# Altium schematic symbol library SMARC.SchLib: 1 symbol
Pins are listed as number, name and electrical type; pins without a type are passive.

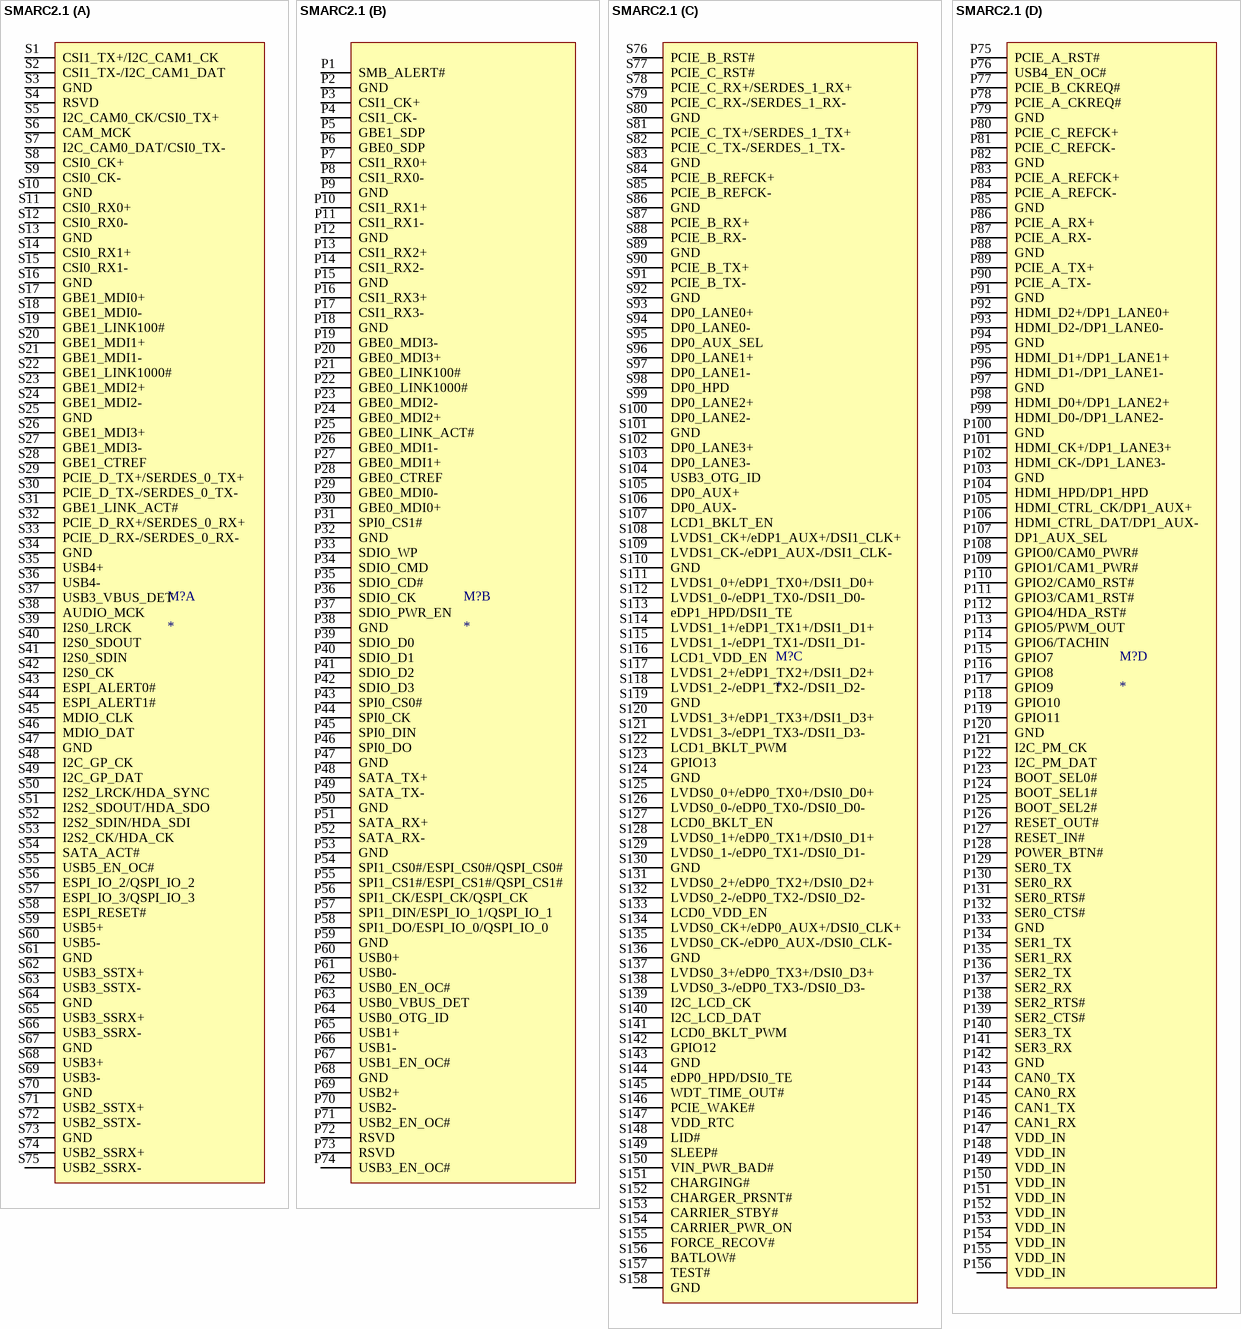
[diagram p0: symbol SMARC2.1]

## SMARC2.1
designator M?
footprint SMARC2.1
part A pins: S1 CSI1_TX+/I2C_CAM1_CK, S2 CSI1_TX-/I2C_CAM1_DAT, S3 GND, S4 RSVD, S5 I2C_CAM0_CK/CSI0_TX+, S6 CAM_MCK, S7 I2C_CAM0_DAT/CSI0_TX-, S8 CSI0_CK+, S9 CSI0_CK-, S10 GND, S11 CSI0_RX0+, S12 CSI0_RX0-, S13 GND, S14 CSI0_RX1+, S15 CSI0_RX1-, S16 GND, S17 GBE1_MDI0+, S18 GBE1_MDI0-, S19 GBE1_LINK100#, S20 GBE1_MDI1+, S21 GBE1_MDI1-, S22 GBE1_LINK1000#, S23 GBE1_MDI2+, S24 GBE1_MDI2-, S25 GND, S26 GBE1_MDI3+, S27 GBE1_MDI3-, S28 GBE1_CTREF, S29 PCIE_D_TX+/SERDES_0_TX+, S30 PCIE_D_TX-/SERDES_0_TX-, S31 GBE1_LINK_ACT#, S32 PCIE_D_RX+/SERDES_0_RX+, S33 PCIE_D_RX-/SERDES_0_RX-, S34 GND, S35 USB4+, S36 USB4-, S37 USB3_VBUS_DET, S38 AUDIO_MCK, S39 I2S0_LRCK, S40 I2S0_SDOUT, S41 I2S0_SDIN, S42 I2S0_CK, S43 ESPI_ALERT0#, S44 ESPI_ALERT1#, S45 MDIO_CLK, S46 MDIO_DAT, S47 GND, S48 I2C_GP_CK, S49 I2C_GP_DAT, S50 I2S2_LRCK/HDA_SYNC, S51 I2S2_SDOUT/HDA_SDO, S52 I2S2_SDIN/HDA_SDI, S53 I2S2_CK/HDA_CK, S54 SATA_ACT#, S55 USB5_EN_OC#, S56 ESPI_IO_2/QSPI_IO_2, S57 ESPI_IO_3/QSPI_IO_3, S58 ESPI_RESET#, S59 USB5+, S60 USB5-, S61 GND, S62 USB3_SSTX+, S63 USB3_SSTX-, S64 GND, S65 USB3_SSRX+, S66 USB3_SSRX-, S67 GND, S68 USB3+, S69 USB3-, S70 GND, S71 USB2_SSTX+, S72 USB2_SSTX-, S73 GND, S74 USB2_SSRX+, S75 USB2_SSRX-
part B pins: P1 SMB_ALERT#, P2 GND, P3 CSI1_CK+, P4 CSI1_CK-, P5 GBE1_SDP, P6 GBE0_SDP, P7 CSI1_RX0+, P8 CSI1_RX0-, P9 GND, P10 CSI1_RX1+, P11 CSI1_RX1-, P12 GND, P13 CSI1_RX2+, P14 CSI1_RX2-, P15 GND, P16 CSI1_RX3+, P17 CSI1_RX3-, P18 GND, P19 GBE0_MDI3-, P20 GBE0_MDI3+, P21 GBE0_LINK100#, P22 GBE0_LINK1000#, P23 GBE0_MDI2-, P24 GBE0_MDI2+, P25 GBE0_LINK_ACT#, P26 GBE0_MDI1-, P27 GBE0_MDI1+, P28 GBE0_CTREF, P29 GBE0_MDI0-, P30 GBE0_MDI0+, P31 SPI0_CS1#, P32 GND, P33 SDIO_WP, P34 SDIO_CMD, P35 SDIO_CD#, P36 SDIO_CK, P37 SDIO_PWR_EN, P38 GND, P39 SDIO_D0, P40 SDIO_D1, P41 SDIO_D2, P42 SDIO_D3, P43 SPI0_CS0#, P44 SPI0_CK, P45 SPI0_DIN, P46 SPI0_DO, P47 GND, P48 SATA_TX+, P49 SATA_TX-, P50 GND, P51 SATA_RX+, P52 SATA_RX-, P53 GND, P54 SPI1_CS0#/ESPI_CS0#/QSPI_CS0#, P55 SPI1_CS1#/ESPI_CS1#/QSPI_CS1#, P56 SPI1_CK/ESPI_CK/QSPI_CK, P57 SPI1_DIN/ESPI_IO_1/QSPI_IO_1, P58 SPI1_DO/ESPI_IO_0/QSPI_IO_0, P59 GND, P60 USB0+, P61 USB0-, P62 USB0_EN_OC#, P63 USB0_VBUS_DET, P64 USB0_OTG_ID, P65 USB1+, P66 USB1-, P67 USB1_EN_OC#, P68 GND, P69 USB2+, P70 USB2-, P71 USB2_EN_OC#, P72 RSVD, P73 RSVD, P74 USB3_EN_OC#
part C pins: S76 PCIE_B_RST#, S77 PCIE_C_RST#, S78 PCIE_C_RX+/SERDES_1_RX+, S79 PCIE_C_RX-/SERDES_1_RX-, S80 GND, S81 PCIE_C_TX+/SERDES_1_TX+, S82 PCIE_C_TX-/SERDES_1_TX-, S83 GND, S84 PCIE_B_REFCK+, S85 PCIE_B_REFCK-, S86 GND, S87 PCIE_B_RX+, S88 PCIE_B_RX-, S89 GND, S90 PCIE_B_TX+, S91 PCIE_B_TX-, S92 GND, S93 DP0_LANE0+, S94 DP0_LANE0-, S95 DP0_AUX_SEL, S96 DP0_LANE1+, S97 DP0_LANE1-, S98 DP0_HPD, S99 DP0_LANE2+, S100 DP0_LANE2-, S101 GND, S102 DP0_LANE3+, S103 DP0_LANE3-, S104 USB3_OTG_ID, S105 DP0_AUX+, S106 DP0_AUX-, S107 LCD1_BKLT_EN, S108 LVDS1_CK+/eDP1_AUX+/DSI1_CLK+, S109 LVDS1_CK-/eDP1_AUX-/DSI1_CLK-, S110 GND, S111 LVDS1_0+/eDP1_TX0+/DSI1_D0+, S112 LVDS1_0-/eDP1_TX0-/DSI1_D0-, S113 eDP1_HPD/DSI1_TE, S114 LVDS1_1+/eDP1_TX1+/DSI1_D1+, S115 LVDS1_1-/eDP1_TX1-/DSI1_D1-, S116 LCD1_VDD_EN, S117 LVDS1_2+/eDP1_TX2+/DSI1_D2+, S118 LVDS1_2-/eDP1_TX2-/DSI1_D2-, S119 GND, S120 LVDS1_3+/eDP1_TX3+/DSI1_D3+, S121 LVDS1_3-/eDP1_TX3-/DSI1_D3-, S122 LCD1_BKLT_PWM, S123 GPIO13, S124 GND, S125 LVDS0_0+/eDP0_TX0+/DSI0_D0+, S126 LVDS0_0-/eDP0_TX0-/DSI0_D0-, S127 LCD0_BKLT_EN, S128 LVDS0_1+/eDP0_TX1+/DSI0_D1+, S129 LVDS0_1-/eDP0_TX1-/DSI0_D1-, S130 GND, S131 LVDS0_2+/eDP0_TX2+/DSI0_D2+, S132 LVDS0_2-/eDP0_TX2-/DSI0_D2-, S133 LCD0_VDD_EN, S134 LVDS0_CK+/eDP0_AUX+/DSI0_CLK+, S135 LVDS0_CK-/eDP0_AUX-/DSI0_CLK-, S136 GND, S137 LVDS0_3+/eDP0_TX3+/DSI0_D3+, S138 LVDS0_3-/eDP0_TX3-/DSI0_D3-, S139 I2C_LCD_CK, S140 I2C_LCD_DAT, S141 LCD0_BKLT_PWM, S142 GPIO12, S143 GND, S144 eDP0_HPD/DSI0_TE, S145 WDT_TIME_OUT#, S146 PCIE_WAKE#, S147 VDD_RTC, S148 LID#, S149 SLEEP#, S150 VIN_PWR_BAD#, S151 CHARGING#, S152 CHARGER_PRSNT#, S153 CARRIER_STBY#, S154 CARRIER_PWR_ON, S155 FORCE_RECOV#, S156 BATLOW#, S157 TEST#, S158 GND
part D pins: P75 PCIE_A_RST#, P76 USB4_EN_OC#, P77 PCIE_B_CKREQ#, P78 PCIE_A_CKREQ#, P79 GND, P80 PCIE_C_REFCK+, P81 PCIE_C_REFCK-, P82 GND, P83 PCIE_A_REFCK+, P84 PCIE_A_REFCK-, P85 GND, P86 PCIE_A_RX+, P87 PCIE_A_RX-, P88 GND, P89 PCIE_A_TX+, P90 PCIE_A_TX-, P91 GND, P92 HDMI_D2+/DP1_LANE0+, P93 HDMI_D2-/DP1_LANE0-, P94 GND, P95 HDMI_D1+/DP1_LANE1+, P96 HDMI_D1-/DP1_LANE1-, P97 GND, P98 HDMI_D0+/DP1_LANE2+, P99 HDMI_D0-/DP1_LANE2-, P100 GND, P101 HDMI_CK+/DP1_LANE3+, P102 HDMI_CK-/DP1_LANE3-, P103 GND, P104 HDMI_HPD/DP1_HPD, P105 HDMI_CTRL_CK/DP1_AUX+, P106 HDMI_CTRL_DAT/DP1_AUX-, P107 DP1_AUX_SEL, P108 GPIO0/CAM0_PWR#, P109 GPIO1/CAM1_PWR#, P110 GPIO2/CAM0_RST#, P111 GPIO3/CAM1_RST#, P112 GPIO4/HDA_RST#, P113 GPIO5/PWM_OUT, P114 GPIO6/TACHIN, P115 GPIO7, P116 GPIO8, P117 GPIO9, P118 GPIO10, P119 GPIO11, P120 GND, P121 I2C_PM_CK, P122 I2C_PM_DAT, P123 BOOT_SEL0#, P124 BOOT_SEL1#, P125 BOOT_SEL2#, P126 RESET_OUT#, P127 RESET_IN#, P128 POWER_BTN#, P129 SER0_TX, P130 SER0_RX, P131 SER0_RTS#, P132 SER0_CTS#, P133 GND, P134 SER1_TX, P135 SER1_RX, P136 SER2_TX, P137 SER2_RX, P138 SER2_RTS#, P139 SER2_CTS#, P140 SER3_TX, P141 SER3_RX, P142 GND, P143 CAN0_TX, P144 CAN0_RX, P145 CAN1_TX, P146 CAN1_RX, P147 VDD_IN, P148 VDD_IN, P149 VDD_IN, P150 VDD_IN, P151 VDD_IN, P152 VDD_IN, P153 VDD_IN, P154 VDD_IN, P155 VDD_IN, P156 VDD_IN